# Altium schematic symbol library EEUFK1V102S.SchLib: 1 symbol
Pins are listed as number, name and electrical type; pins without a type are passive.

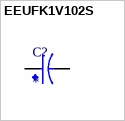
[diagram p0: symbol EEUFK1V102S]

## EEUFK1V102S
designator C?
Aluminum Electrolytic Capacitors - Radial Leaded; MP: EEU-FK1V102S; MF: Panasonic; Availability: In Stock; Check_prices: https://www.snapeda.com/parts/EEU-FK1V102S/Panasonic/view-part/?ref=eda; Value: *; SnapEDA_Link: https://www.snapeda.com/parts/EEU-FK1V102S/Panasonic/view-part/?ref=snap; Price: None; Package: RADIAL-2 Panasonic
footprint CAPPRD750W80D1600H1500
pins: N, P